# Altium schematic symbol library HT7463.SchLib: 1 symbol
Pins are listed as number, name and electrical type; pins without a type are passive.

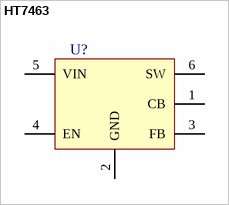
[diagram p0: symbol HT7463]

## HT7463
designator U?
pins: 1 CB, 2 GND, 3 FB, 4 EN, 5 VIN, 6 SW